# EAGLE library part WT8266-S1 (library espressif)
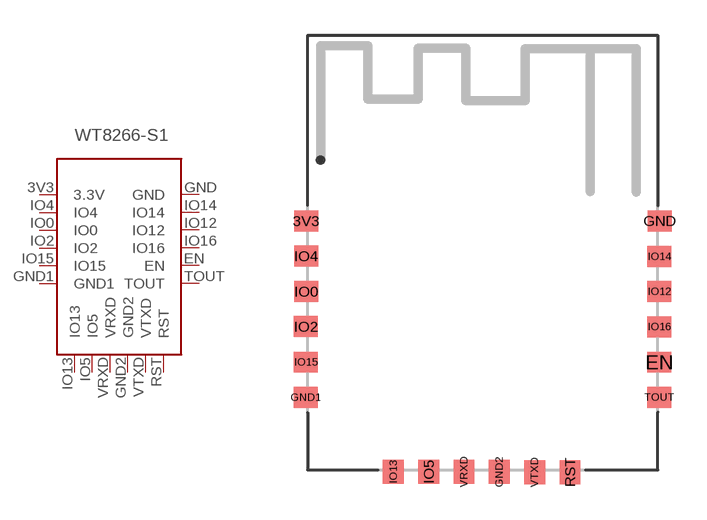
[diagram p2: symbol with the pads of WT8266-S1; footprint WT8266-S1]

Designator prefix -

## WT8266-S1  [WT8266-S1]
3V3  3.3V
EN  EN
GND  GND
GND1  GND1
GND2  GND2
IO0  IO0
IO2  IO2
IO4  IO4
IO5  IO5
IO12  IO12
IO13  IO13
IO14  IO14
IO15  IO15
IO16  IO16
RST  RST
TOUT  TOUT
VRXD  VRXD
VTXD  VTXD

## Footprint WT8266-S1 (pad centres in mm)
smd 1.016 x 0.889: 3V3 -7.62,1.753; EN 7.379,-4.248; GND 7.385,1.759; GND1 -7.639,-5.747; IO0 -7.62,-1.245; IO2 -7.633,-2.737; IO4 -7.626,0.26; IO12 7.379,-1.245; IO14 7.379,0.241; IO15 -7.633,-4.248; IO16 7.379,-2.743; TOUT 7.372,-5.74
smd 0.889 x 1.016: GND2 0.578,-8.915; IO5 -2.419,-8.903; IO13 -3.918,-8.903; RST 3.581,-8.922; VRXD -0.921,-8.909; VTXD 2.076,-8.928